# EAGLE library part K561LN2 (library _mtvl_ic.soviet)
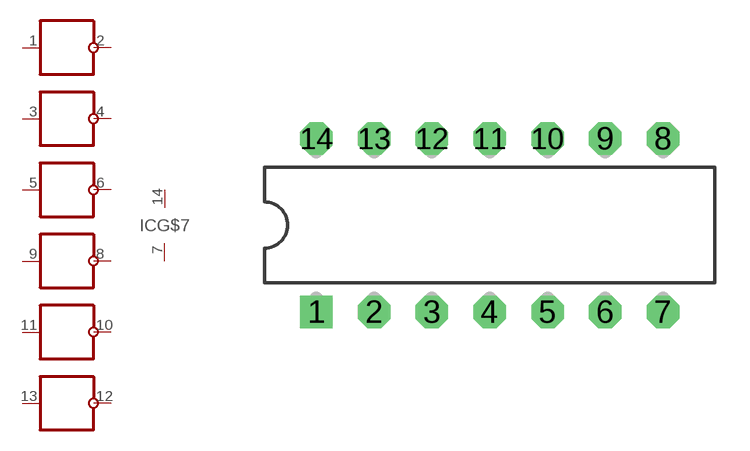
[diagram p6: symbol with the pads of 201.14-1; footprint 201.14-1]

Designator prefix IC; gates G$1=K561LN2 G$2=K561LN2 G$3=K561LN2 G$4=K561LN2 G$5=K561LN2 G$6=K561LN2 G$7=PWR+-

## K561LN2  [201.14-1]
1  G$1:IN
2  G$1:OUT
3  G$2:IN
4  G$2:OUT
5  G$3:IN
6  G$3:OUT
7  G$7:V-  pwr
8  G$4:OUT
9  G$4:IN
10  G$5:OUT
11  G$5:IN
12  G$6:OUT
13  G$6:IN
14  G$7:V+  pwr

## Footprint 201.14-1 (pad centres in mm)
Dual In Line Package
drill 0.9 square: 1 -7.5,-3.75
drill 0.9 octagon: 2 -5,-3.75; 3 -2.5,-3.75; 4 0,-3.75; 5 2.5,-3.75; 6 5,-3.75; 7 7.5,-3.75; 8 7.5,3.75; 9 5,3.75; 10 2.5,3.75; 11 0,3.75; 12 -2.5,3.75; 13 -5,3.75; 14 -7.5,3.75